# Altium schematic symbol library Master.SchLib: 9 symbols
Pins are listed as number, name and electrical type; pins without a type are passive.

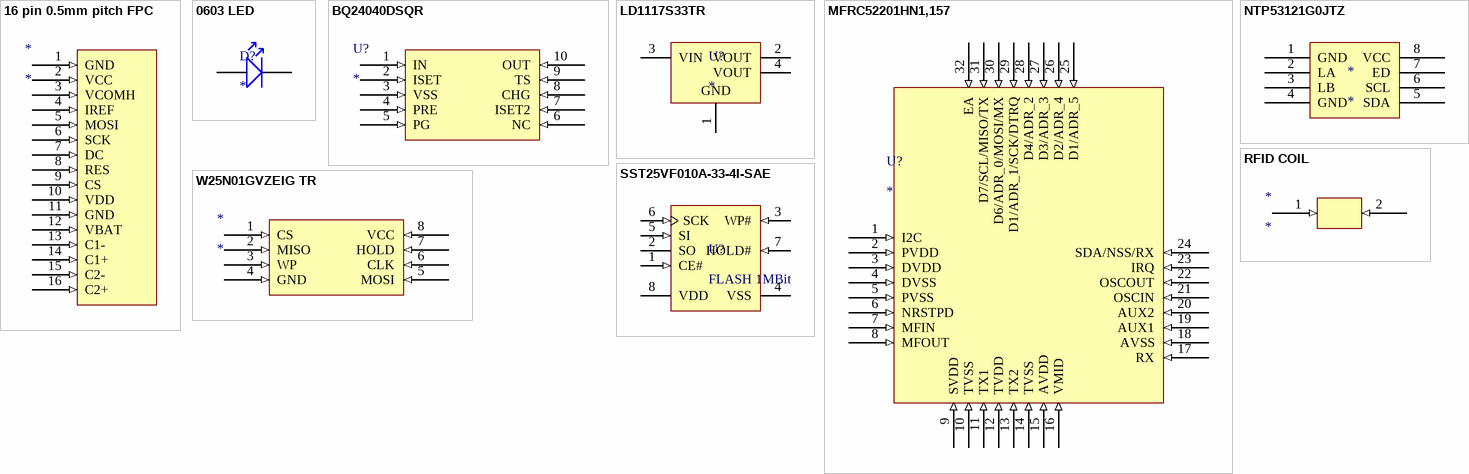
[diagram p0: symbols 16 pin 0.5mm pitch FPC to W25N01GVZEIG TR]

## 16 pin 0.5mm pitch FPC
designator *
footprint CONN16_046809616210846+_AVX
pins: 1 GND (in), 2 VCC (in), 3 VCOMH (in), 4 IREF (in), 5 MOSI (in), 6 SCK (in), 7 DC (in), 8 RES (in), 9 CS (in), 10 VDD (in), 11 GND (in), 12 VBAT (in), 13 C1- (in), 14 C1+ (in), 15 C2- (in), 16 C2+ (in)

## 0603 LED
designator D?
footprint 0603 LED
pins: 1 6, 2 5

## BQ24040DSQR
designator U?
pins: 1 IN (in), 2 ISET (in), 3 VSS (in), 4 PRE (in), 5 PG (in), 6 NC (in), 7 ISET2 (in), 8 CHG (in), 9 TS (in), 10 OUT (in)

## LD1117S33TR
designator U?
Fixed Positive LDO Regulator, 3.3V, 1.2V Dropout, BIPolar, PDSO4; Manufacturer: STMicroelectronics; Manufacturer Part Number: LD1117S33TR; Package Body Material: Plastic; Dropout Voltage1-Nom: 1.1V; Input Voltage Absolute-Max: 15V; Min Input Voltage: 4.75V; Line Regulation-Max: 0.006%; Load Regulation-Max: 0.01%; Channels: 1; Output Current1-Max: 1.3A; Output Voltage1-Max: 3.365V; Output Voltage1-Min: 3.235V; Regulator Type: FIXED POSITIVE SINGLE OUTPUT LDO REGULATOR; Time @ Peak Reflow Temperature-Max (s): 30s; Voltage Tolerance-Max: 2%; Qualification Status: Not Qualified; Supplier: Mouser; Supplier Part Number: 511-LD1117S33; RoHS: Yes; Category: Voltage Regulators - Linear; Stock: 175247; Pricing: 1=0.64, 10=0.53, 50=0.53, 100=0.386, 1000=0.291, 10000=0.229 (USD); Case/Package: SOP; Pins: 3; Package Shape: Rectangular; Terminal Finish: Tin; JESD-609 Code: e3; Adjustability: FIXED; Dropout Voltage1-Max: 1.2V; Max Supply Voltage: 15V; JESD-30 Code: R-PDSO-G3; Moisture Sensitivity Level: 1; Number of Outputs: 1; Operating Temperature, TJ-Max: 125°C; Operating Temperature, TJ-Min: 0°C; Output Voltage1-Nom: 3.3V; Package Style: SMALL OUTLINEMeter; Packaging: Tape and Reel; Peak Reflow Temperature (Cel): 260°C; Surface Mount: Yes; Technology: BIPOLAR; Terminal Form: Gull Wing; Terminal Position: DUAL; Length: 6.5mm; Width: 3.5mm; Height - Seated (Max): 1.9mm; Terminal Pitch: 2.3mm; RoHS Compliant: Yes; Reach SVHC Compliant: No; ComponentLink1URL: https://datasheet.ciiva.com:443/pdfs/VipMasterIC/IC/SGST/SGST-S-A0009691890/SGST-S-A0009691890-1.pdf?src-supplier=IHS+Markit; ComponentLink1Description: https://datasheet.ciiva.com:443/pdfs/VipMasterIC/IC/SGST/SGST-S-A0009691890/SGST-S-A0009691890-1.pdf?src-supplier=IHS+Markit; ComponentLink2URL: https://datasheet.ciiva.com/19478/1390240-19478097.pdf?src-supplier=Jameco; ComponentLink2Description: https://datasheet.ciiva.com/19478/1390240-19478097.pdf?src-supplier=Jameco; ComponentLink3URL: https://datasheet.ciiva.com/1511/1776449-1511573.pdf?src-supplier=Element14; ComponentLink3Description: https://datasheet.ciiva.com/1511/1776449-1511573.pdf?src-supplier=Element14; ComponentLink4URL: https://datasheet.ciiva.com/7992/1776449-7992621.pdf?src-supplier=Element14; ComponentLink4Description: https://datasheet.ciiva.com/7992/1776449-7992621.pdf?src-supplier=Element14; ComponentLink5URL: https://datasheet.ciiva.com/28652/1776449-28652462.pdf?src-supplier=Element14; ComponentLink5Description: https://datasheet.ciiva.com/28652/1776449-28652462.pdf?src-supplier=Element14; ComponentLink6URL: https://datasheet.ciiva.com/2041/cd00000544-2041942.pdf?src-supplier=Digi-Key; ComponentLink6Description: https://datasheet.ciiva.com/2041/cd00000544-2041942.pdf?src-supplier=Digi-Key; ComponentLink7URL: https://datasheet.ciiva.com/2041/cd00000544-2041941.pdf?src-supplier=Digi-Key; ComponentLink7Description: https://datasheet.ciiva.com/2041/cd00000544-2041941.pdf?src-supplier=Digi-Key; ComponentLink8URL: https://datasheet.ciiva.com/2041/cd00000544-2041943.pdf?src-supplier=Digi-Key; ComponentLink8Description: https://datasheet.ciiva.com/2041/cd00000544-2041943.pdf?src-supplier=Digi-Key; ComponentLink9URL: https://datasheet.ciiva.com/16396/cd00000544-16396459.pdf?src-supplier=Future+Electronics; ComponentLink9Description: https://datasheet.ciiva.com/16396/cd00000544-16396459.pdf?src-supplier=Future+Electronics
footprint SOT230P700X180-4N (SOT223, 4-Leads, Body 6.50x7.00mm (avg), Pitch 2.30mm, IPC Medium Density)
pins: 1 GND (power), 2 VOUT (power), 3 VIN (power), 4 VOUT (power)

## MFRC52201HN1,157
designator U?
footprint QFN50P500X500X100_HS-33N (QFN, 32-Leads, Body 5.00x5.00mm, Pitch 0.50mm, Thermal Pad 3.10x3.10mm, IPC Medium Density)
pins: 1 I2C (in), 2 PVDD (in), 3 DVDD (in), 4 DVSS (in), 5 PVSS (in), 6 NRSTPD (in), 7 MFIN (in), 8 MFOUT (in), 9 SVDD (in), 10 TVSS (in), 11 TX1 (in), 12 TVDD (in), 13 TX2 (in), 14 TVSS (in), 15 AVDD (in), 16 VMID (in), 17 RX (in), 18 AVSS (in), 19 AUX1 (in), 20 AUX2 (in), 21 OSCIN (in), 22 OSCOUT (in), 23 IRQ (in), 24 SDA/NSS/RX (in), 25 D1/ADR_5 (in), 26 D2/ADR_4 (in), 27 D3/ADR_3 (in), 28 D4/ADR_2 (in), 29 D1/ADR_1/SCK/DTRQ (in), 30 D6/ADR_0/MOSI/MX (in), 31 D7/SCL/MISO/TX (in), 32 EA (in)

## NTP53121G0JTZ
designator *
footprint SOIC8 3.9mm
pins: 1 GND, 2 LA, 3 LB, 4 GND, 5 SDA, 6 SCL, 7 ED, 8 VCC

## RFID COIL
designator *
footprint PCBComponent_1
pins: 1 (in), 2 (in)

## SST25VF010A-33-4I-SAE
designator U?, comment FLASH 1MBit
footprint SOIC8 3.9mm
pins: 1 CE# (in) "The device is enabled by a high to low transition on CE#. CE# must remain low for the duration of any command sequence.", 2 SO (hiz) "To transfer data serially out of the device. Data is shifted out on the falling edge of the serial clock.", 3 WP# (in) "The Write Protect (WP#) pin is used to enable/disable BPL bit in the status register.", 4 VSS (power) "Ground", 5 SI (in) "To transfer commands, addresses, or data serially into the device. Inputs are latched on the rising edge of the serial clock.", 6 SCK (in) "To provide the timing of the serial interface. Commands, addresses, or input data are latched on the rising edge of the clock input, while output data is shifted out on the falling edge of the clock input.", 7 HOLD# (in) "To temporarily stop serial communication with SPI flash memory without resetting the device.", 8 VDD (power) "To provide power supply (2.7-3.6V)."

## W25N01GVZEIG TR
designator *
pins: 1 CS (in), 2 MISO (in), 3 WP (in), 4 GND (in), 5 MOSI (in), 6 CLK (in), 7 HOLD (in), 8 VCC (in)